# EAGLE library part MODULARJACK_6C6P (library Traficon)
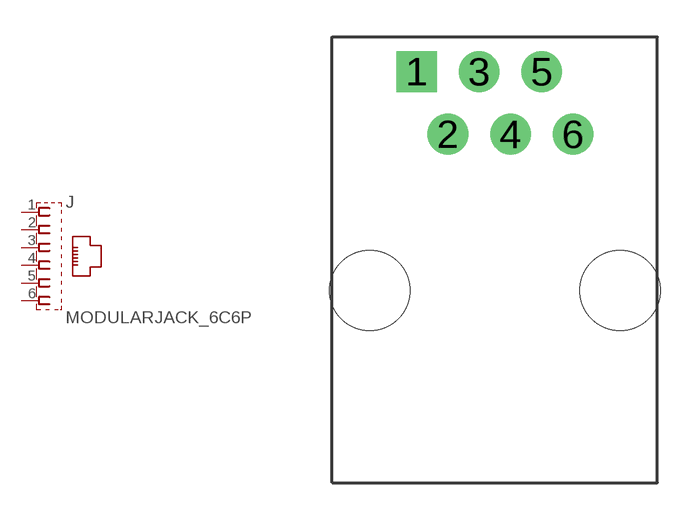
[diagram p211: symbol with the pads of MOLEX_95501-2661; footprint MOLEX_95501-2661]

Designator prefix J

## MODULARJACK_6C6P  [MOLEX_95501-2661]
1  1  pas
2  2  pas
3  3  pas
4  4  pas
5  5  pas
6  6  pas

## Footprint MOLEX_95501-2661 (pad centres in mm)
drill 1.1 square: 1 -3.175,8.89
drill 1.1 round: 2 -1.905,6.35; 3 -0.635,8.89; 4 0.635,6.35; 5 1.905,8.89; 6 3.175,6.35
hole 3.25 at -5.08,0
hole 3.25 at 5.08,0